# Altium integrated library SM-K26-XCL2GI.IntLib: 1 symbol
Pins are listed as number, name and electrical type; pins without a type are passive.

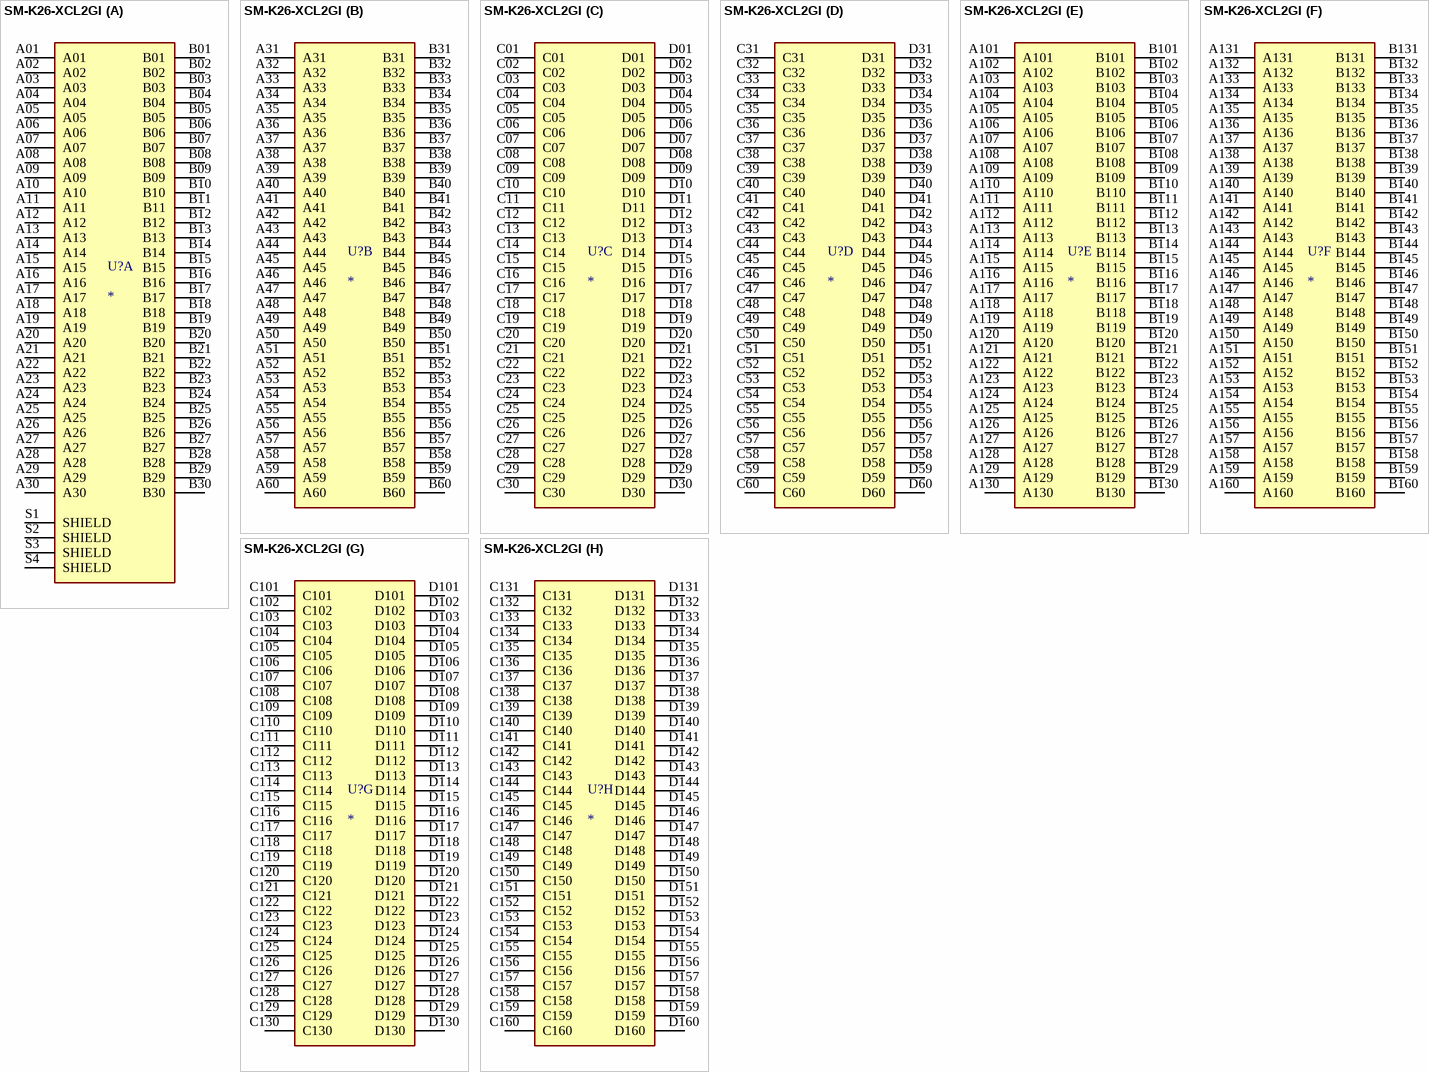
[diagram p0: symbol SM-K26-XCL2GI]

## SM-K26-XCL2GI
designator U?
ZynqÂ® UltraScale+â„¢ Kriaâ„¢ Embedded Module ARMÂ® CortexÂ®-A53 ArmÂ® CortexÂ®-R5F 533MHz, 1.333GHz 4GB 16GB eMMC, 64MB QSPI; MP: SM-K26-XCL2GI; MF: Xilinx Inc.; Package: None; SnapEDA_Link: https://www.snapeda.com/parts/SM-K26-XCL2GI/Xilinx+Inc./view-part/?ref=snap; Value: *; Check_prices: https://www.snapeda.com/parts/SM-K26-XCL2GI/Xilinx+Inc./view-part/?ref=eda; Availability: In Stock; Price: None; Purchase-URL: https://pricing.snapeda.com/search/part/SM-K26-XCL2GI/?ref=eda
footprint MODULE_SM-K26-XCL2GI
part A pins: A01, A02, A03, A04, A05, A06, A07, A08, A09, A10, A11, A12, A13, A14, A15, A16, A17, A18, A19, A20, A21, A22, A23, A24, A25, A26, A27, A28, A29, A30, B01, B02, B03, B04, B05, B06, B07, B08, B09, B10, B11, B12, B13, B14, B15, B16, B17, B18, B19, B20, B21, B22, B23, B24, B25, B26, B27, B28, B29, B30, S1 SHIELD, S2 SHIELD, S3 SHIELD, S4 SHIELD
part B pins: A31, A32, A33, A34, A35, A36, A37, A38, A39, A40, A41, A42, A43, A44, A45, A46, A47, A48, A49, A50, A51, A52, A53, A54, A55, A56, A57, A58, A59, A60, B31, B32, B33, B34, B35, B36, B37, B38, B39, B40, B41, B42, B43, B44, B45, B46, B47, B48, B49, B50, B51, B52, B53, B54, B55, B56, B57, B58, B59, B60
part C pins: C01, C02, C03, C04, C05, C06, C07, C08, C09, C10, C11, C12, C13, C14, C15, C16, C17, C18, C19, C20, C21, C22, C23, C24, C25, C26, C27, C28, C29, C30, D01, D02, D03, D04, D05, D06, D07, D08, D09, D10, D11, D12, D13, D14, D15, D16, D17, D18, D19, D20, D21, D22, D23, D24, D25, D26, D27, D28, D29, D30
part D pins: C31, C32, C33, C34, C35, C36, C37, C38, C39, C40, C41, C42, C43, C44, C45, C46, C47, C48, C49, C50, C51, C52, C53, C54, C55, C56, C57, C58, C59, C60, D31, D32, D33, D34, D35, D36, D37, D38, D39, D40, D41, D42, D43, D44, D45, D46, D47, D48, D49, D50, D51, D52, D53, D54, D55, D56, D57, D58, D59, D60
part E pins: A101, A102, A103, A104, A105, A106, A107, A108, A109, A110, A111, A112, A113, A114, A115, A116, A117, A118, A119, A120, A121, A122, A123, A124, A125, A126, A127, A128, A129, A130, B101, B102, B103, B104, B105, B106, B107, B108, B109, B110, B111, B112, B113, B114, B115, B116, B117, B118, B119, B120, B121, B122, B123, B124, B125, B126, B127, B128, B129, B130
part F pins: A131, A132, A133, A134, A135, A136, A137, A138, A139, A140, A141, A142, A143, A144, A145, A146, A147, A148, A149, A150, A151, A152, A153, A154, A155, A156, A157, A158, A159, A160, B131, B132, B133, B134, B135, B136, B137, B138, B139, B140, B141, B142, B143, B144, B145, B146, B147, B148, B149, B150, B151, B152, B153, B154, B155, B156, B157, B158, B159, B160
part G pins: C101, C102, C103, C104, C105, C106, C107, C108, C109, C110, C111, C112, C113, C114, C115, C116, C117, C118, C119, C120, C121, C122, C123, C124, C125, C126, C127, C128, C129, C130, D101, D102, D103, D104, D105, D106, D107, D108, D109, D110, D111, D112, D113, D114, D115, D116, D117, D118, D119, D120, D121, D122, D123, D124, D125, D126, D127, D128, D129, D130
part H pins: C131, C132, C133, C134, C135, C136, C137, C138, C139, C140, C141, C142, C143, C144, C145, C146, C147, C148, C149, C150, C151, C152, C153, C154, C155, C156, C157, C158, C159, C160, D131, D132, D133, D134, D135, D136, D137, D138, D139, D140, D141, D142, D143, D144, D145, D146, D147, D148, D149, D150, D151, D152, D153, D154, D155, D156, D157, D158, D159, D160